# Altium footprint library PcbLib1.PcbLib: 7 footprints
Each footprint in its own frame and in the unit in brackets; x right, y up, seen from the top. Pads: shape width x height; smd on the part's side, far side on the other; paste and mask are expansions set on the pad; w line width, h text height; cw(c..) or ccw(c..) is an arc to the next point about the centre after c.
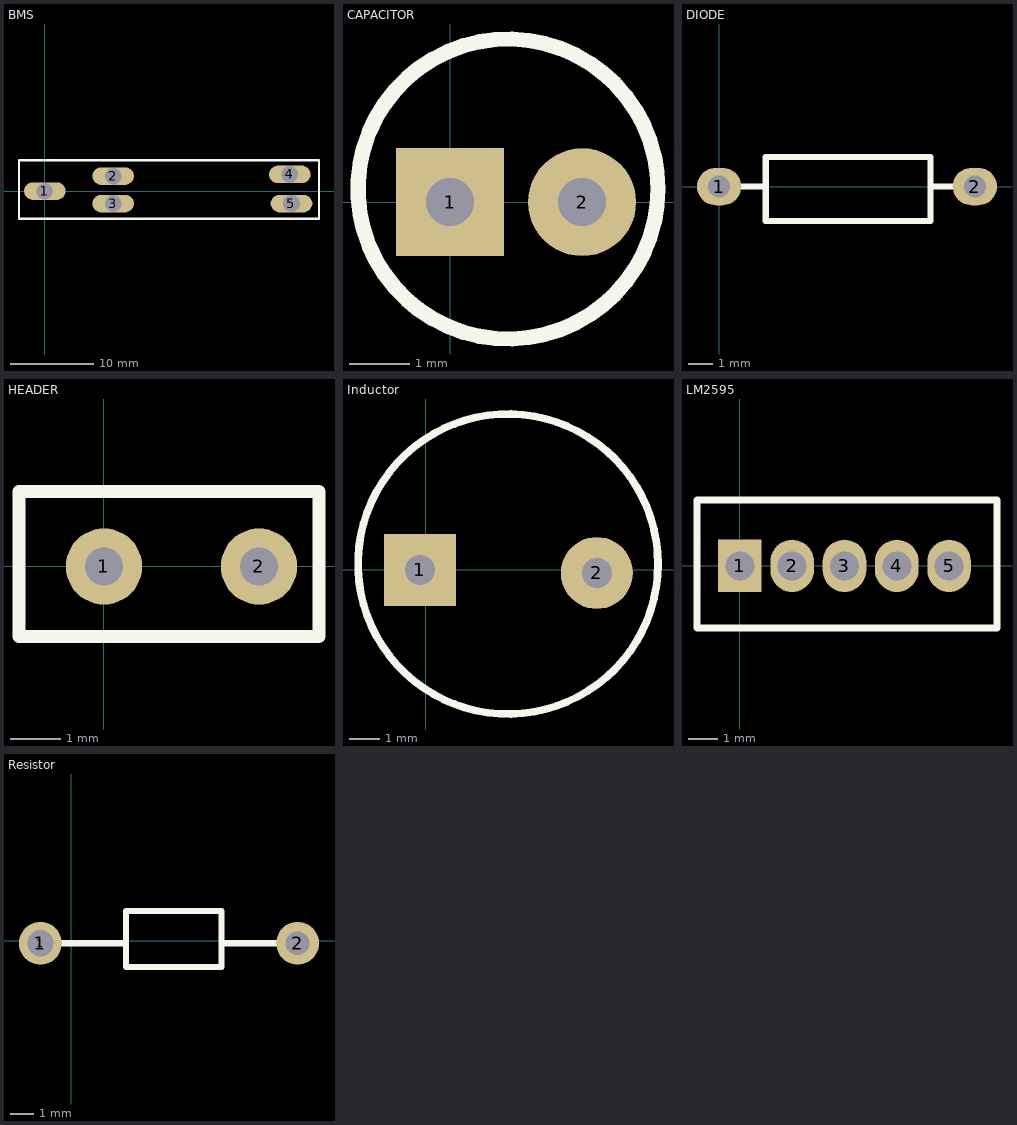
[diagram p0: the footprints below, top view; thin cyan lines are the x and y axes]

## BMS [mm]
pads (5):
  oval 5x2.1 hole 2 paste-2539.97: 1(0,0) 2(8.2,1.8) 3(8.2,-1.5) 4(29.4,2) 5(29.6,-1.5)
Top Overlay:
  lines w0.3: -3.1,-3.3 32.9,-3.3 32.9,3.7 -3.1,3.7 -3.1,-3.3

## CAPACITOR [mm]
pads (2):
  rect 1.8x1.8 hole 0.8: 1(0,0)
  round 1.8 hole 0.8: 2(2.2,0)
Top Overlay:
  circle w0.254: c0.965,0.22 r2.5
3D body "EC 5x11 P2 D0.5.STEP": height 11, standoff -1.8, extent -1.4,-2.6 3.6,2.4

## DIODE [mm]
pads (2):
  oval 1.8x1.524 hole 0.9: 1(0,0) 2(10.4,0)
Top Overlay:
  lines w0.254: 0,0 1.714,0 ; 8.686,0 10.4,0 ; 1.9,-1.4 8.6,-1.4 8.6,1.2 1.9,1.2 1.9,-1.4
3D body "SB140-T.STEP": height 2.68, standoff -21.77, extent -0.274,-1.346 10.674,1.346

## HEADER [mil]
pads (2):
  round 60 hole 30: 1(0,0) 2(122.05,0)
Top Overlay:
  lines w10: -66.93,-55.12 169.29,-55.12 169.29,59.06 -66.93,59.06 -66.93,47.24 -66.93,-55.12
3D body "430450213.stp": height 431.3, standoff -84.06, extent -129.33,-135.83 215.94,145.67

## Inductor [mm]
pads (2):
  rect 2.4x2.4 hole 1: 1(-0.2,0)
  round 2.4 hole 1: 2(5.7,-0.1)
Top Overlay:
  circle w0.254: c2.74,0.2 r5
3D body "69428.stp": height 11, standoff -6, extent -1.9,-4.6 7.3,4.6

## LM2595 [mm]
pads (5):
  rect 1.5x1.8 hole 1: 1(0,0)
  oval 1.5x1.8 hole 1: 2(1.8,0) 3(3.6,0) 4(5.4,0) 5(7.2,0)
Top Overlay:
  lines w0.254: -1.475,-2.137 8.847,-2.137 8.847,2.264 -1.475,2.264 -1.475,-2.137
3D body "LM2576WT.STEP": height 16.51, standoff -14.99, extent -1.38,-1.491 8.78,2.7

## Resistor [mm]
pads (3):
  round 0.6 hole 1.1: 1(-1.3,-0.1)
  round 1.8 all layers, no hole: 1(-1.3,-0.1)
  round 1.8 hole 1: 2(9.5,-0.1)
Top Overlay:
  lines w0.254: -1.3,-0.1 2.3,-0.1 ; 6.3,-0.1 9.5,-0.1 ; 2.3,-1.1 6.3,-1.1 6.3,1.256 2.3,1.256 2.3,-1.1
3D body "MFR-25FBF52-1K.STEP": height 2.39, standoff -26.95, extent -1.675,-1 9.875,1.4